# EAGLE library part SWITCH-MAX4544 (library TEABOX-LIB)
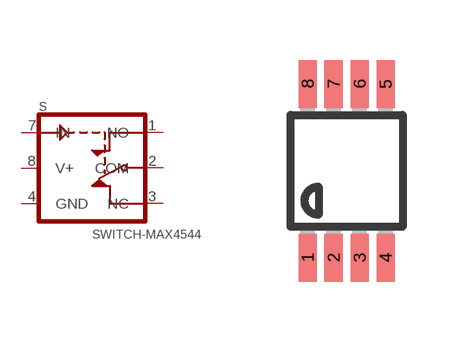
[diagram p15: symbol with the pads of UMAX8; footprint UMAX8]

Designator prefix S

## SWITCH-MAX4544CUA  [UMAX8]
1  NO
2  COM
3  NC
4  GND  sup
7  IN
8  V+  pwr

## Footprint UMAX8 (pad centres in mm)
micro MAX Package
smd 0.45 x 1.2: 1 -0.975,-2.175; 2 -0.325,-2.175; 3 0.325,-2.175; 4 0.975,-2.175; 5 0.975,2.175; 6 0.325,2.175; 7 -0.325,2.175; 8 -0.975,2.175